# EAGLE library part LATCH_SWITCH (library custom_library)
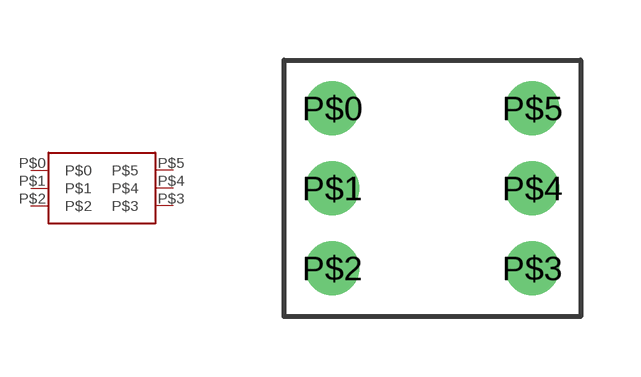
[diagram p0: symbol with the pads of LATCH_SWITCH; footprint LATCH_SWITCH]

Designator prefix -

## LATCH_SWITCH  [LATCH_SWITCH]
P$0  P$0
P$1  P$1
P$2  P$2
P$3  P$3
P$4  P$4
P$5  P$5

## Footprint LATCH_SWITCH (pad centres in mm)
drill 0.85: P$0 -2.5,2; P$1 -2.5,0; P$2 -2.5,-2; P$3 2.5,-2; P$4 2.5,0; P$5 2.5,2